# EAGLE library part MCP73871T-4CCI/ML (library Battery Chargers)
Charger IC Lithium Ion/Polymer 20-QFN (4x4) Manufacturer's datasheet <https://ww1.microchip.com/downloads/en/DeviceDoc/MCP73871-Data-Sheet-20002090E.pdf>
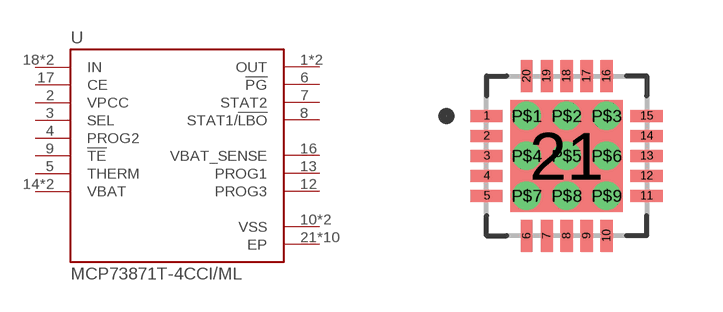
[diagram p2: symbol with the pads of MCP73871T-4CCI/ML; footprint MCP73871T-4CCI/ML]

Designator prefix U

## MCP73871T-4CCI/ML (CREATED_BY: PCBLayout.com; DIGIKEY_PART_NUMBER: MCP73871T-4CCI/MLCT-ND; MANUFACTURER: Microchip Technology; MPN: MCP73871T-4CCI/ML; PACKAGE: 20-QFN)  [MCP73871T-4CCI/ML]
1  OUT  out
2  VPCC  in
3  SEL  in
4  PROG2  in
5  THERM
6  !PG  out
7  STAT2  out
8  STAT1/!LBO  out
9  !TE  in
10  VSS  pwr
11  VSS  pwr
12  PROG3
13  PROG1
14  VBAT
15  VBAT
16  VBAT_SENSE
17  CE  in
18  IN  in
19  IN  in
20  OUT  out
21  EP  pwr
P$1  EP  pwr
P$2  EP  pwr
P$3  EP  pwr
P$4  EP  pwr
P$5  EP  pwr
P$6  EP  pwr
P$7  EP  pwr
P$8  EP  pwr
P$9  EP  pwr

## Footprint MCP73871T-4CCI/ML (pad centres in mm)
smd 0.8 x 0.3: 1 -2,1; 2 -2,0.5; 3 -2,0; 4 -2,-0.5; 5 -2,-1; 11 2,-1; 12 2,-0.5; 13 2,0; 14 2,0.5; 15 2,1
smd 0.3 x 0.8: 6 -1,-2; 7 -0.5,-2; 8 0,-2; 9 0.5,-2; 10 1,-2; 16 1,2; 17 0.5,2; 18 0,2; 19 -0.5,2; 20 -1,2
smd 2.8 x 2.8: 21 0,0
drill 0.2 pad 0.5: P$1 -1,1; P$2 0,1; P$3 1,1; P$4 -1,0; P$5 0,0; P$6 1,0; P$7 -1,-1; P$8 0,-1; P$9 1,-1